# EAGLE library part LM393 (library MotorDriver)
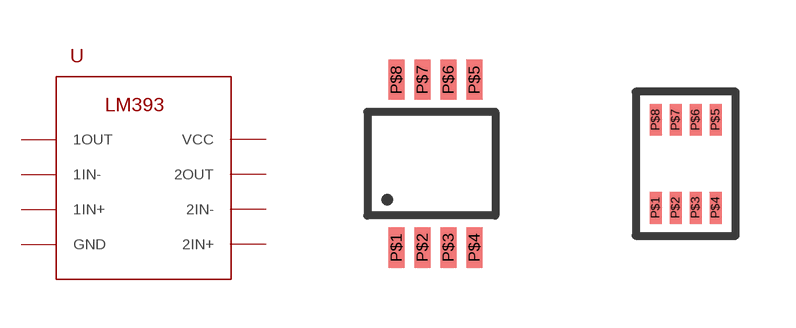
[diagram p3: symbol with the pads of VSSOP-8; footprints VSSOP-8, DFN-8(2X2)]

Designator prefix U

## LM393DGKR/VSSOP-8  [VSSOP-8]
P$1  1OUT
P$2  1IN-
P$3  1IN+
P$4  GND
P$5  2IN+
P$6  2IN-
P$7  2OUT
P$8  VCC

## LM393/DFN-8  [DFN-8(2X2)]
Pads as for VSSOP-8

## Footprint VSSOP-8 (pad centres in mm)
smd 0.4 x 1: P$1 -0.975,-2.1; P$2 -0.325,-2.1; P$3 0.325,-2.1; P$4 0.975,-2.1; P$5 0.975,2.1; P$6 0.325,2.1; P$7 -0.325,2.1; P$8 -0.975,2.1

## Footprint DFN-8(2X2) (pad centres in mm)
smd 0.3 x 0.8: P$1 -0.7,-1.1; P$2 -0.2,-1.1; P$3 0.3,-1.1; P$4 0.8,-1.1; P$5 0.8,1.1; P$6 0.3,1.1; P$7 -0.2,1.1; P$8 -0.7,1.1